# EAGLE library part OV7660FSL_CON (library biomimetic)
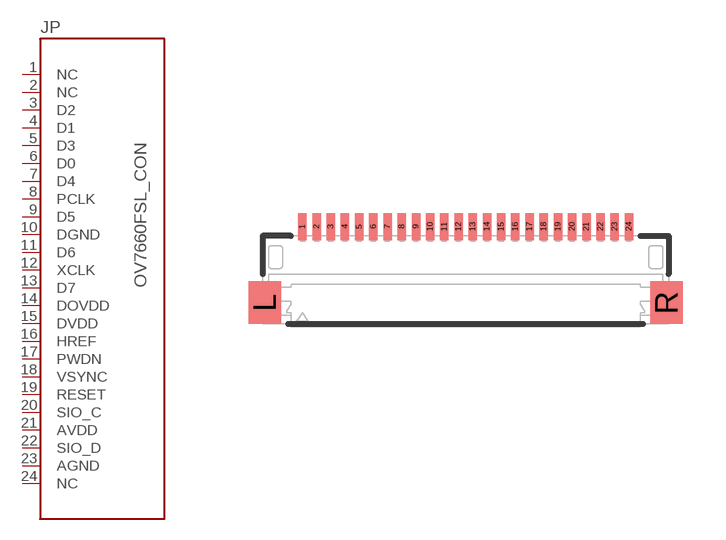
[diagram p4: symbol with the pads of MOLEX_52740-2490; footprint MOLEX_52740-2490]

Designator prefix JP

## OV7660FSL_CON  [MOLEX_52740-2490]
1  NC
2  NC
3  D2
4  D1
5  D3
6  D0
7  D4
8  PCLK
9  D5
10  DGND
11  D6
12  XCLK
13  D7
14  DOVDD
15  DVDD
16  HREF
17  PWDN
18  VSYNC
19  RESET
20  SIO_C
21  AVDD
22  SIO_D
23  AGND
24  NC

## Footprint MOLEX_52740-2490 (pad centres in mm)
smd 0.3 x 0.95: 1 -5.75,1.875; 2 -5.25,1.875; 3 -4.75,1.875; 4 -4.25,1.875; 5 -3.75,1.875; 6 -3.25,1.875; 7 -2.75,1.875; 8 -2.25,1.875; 9 -1.75,1.875; 10 -1.25,1.875; 11 -0.75,1.875; 12 -0.25,1.875; 13 0.25,1.875; 14 0.75,1.875; 15 1.25,1.875; 16 1.75,1.875; 17 2.25,1.875; 18 2.75,1.875; 19 3.25,1.875; 20 3.75,1.875; 21 4.25,1.875; 22 4.75,1.875; 23 5.25,1.875; 24 5.75,1.875
smd 1.15 x 1.5: L -7.075,-0.8; R 7.075,-0.8